# Altium footprint library TV1.PcbLib: 26 footprints (part 2 of 2)
Each footprint in its own frame and in the unit in brackets; x right, y up, seen from the top. Pads: shape width x height; smd on the part's side, far side on the other; paste and mask are expansions set on the pad; w line width, h text height; cw(c..) or ccw(c..) is an arc to the next point about the centre after c.
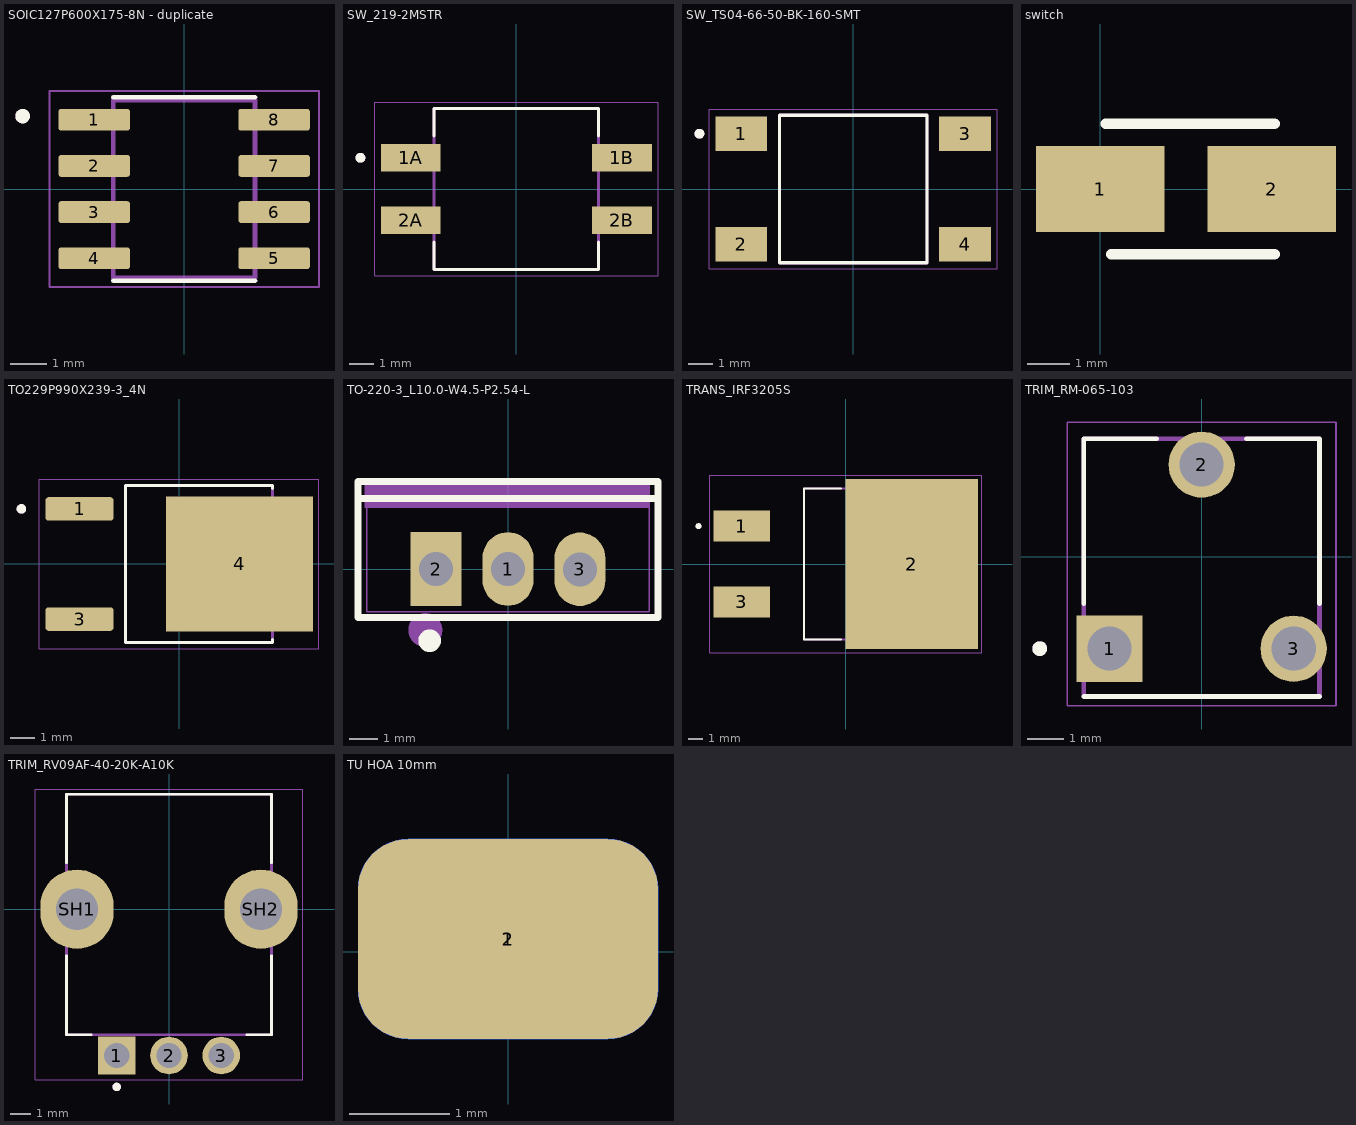
[diagram p1: the footprints below, top view; thin cyan lines are the x and y axes]

## SOIC127P600X175-8N - duplicate [mm]
height 1.75
pads (8):
  rrect25% 1.97x0.6 smd: 1(-2.475,1.905) 2(-2.475,0.635) 3(-2.475,-0.635) 4(-2.475,-1.905) 5(2.475,-1.905) 6(2.475,-0.635) 7(2.475,0.635) 8(2.475,1.905)
Top Overlay:
  circle w0.2: c-4.445,2.005 r0.1
  lines w0.127: -1.95,-2.525 1.95,-2.525 ; -1.95,2.525 1.95,2.525
Mechanical 13:
  circle w0.2: c-4.445,2.005 r0.1
  lines w0.127: -1.95,-2.45 -1.95,2.45 1.95,2.45 1.95,-2.45 -1.95,-2.45
Mechanical 15:
  lines w0.05: -3.71,-2.7 -3.71,2.7 3.71,2.7 3.71,-2.7 -3.71,-2.7
3D body "step_temp.STEP": height 1.75, standoff 0, extent -3,-2.5 3,2.5

## SW_219-2MSTR [mm]
height 3.85
pads (4):
  rect 2.44x1.13 smd: 1A(-4.3,1.27) 1B(4.3,1.27) 2A(-4.3,-1.27) 2B(4.3,-1.27)
Top Overlay:
  circle w0.2: c-6.35,1.27 r0.1
  lines w0.127: -3.35,-2.155 -3.35,-3.275 3.35,-3.275 3.35,-2.155 ; -3.35,2.155 -3.35,3.275 3.35,3.275 3.35,2.155
Mechanical 13:
  circle w0.2: c-6.35,1.27 r0.1
  lines w0.127: -3.35,-3.275 3.35,-3.275 3.35,3.275 -3.35,3.275 -3.35,-3.275
Mechanical 15:
  lines w0.05: -5.77,-3.525 -5.77,3.525 5.77,3.525 5.77,-3.525 -5.77,-3.525
3D body "step_temp.STEP": height 4.58, standoff 0, extent -4.955,-3.275 4.955,3.275

## SW_TS04-66-50-BK-160-SMT [mm]
pads (4):
  rect 2.1x1.4 smd: 1(-4.55,2.25) 2(-4.55,-2.25) 3(4.55,2.25) 4(4.55,-2.25)
Top Overlay:
  circle w0.2: c-6.25,2.25 r0.1
  lines w0.127: -3,-3 3,-3 3,3 -3,3 -3,-3
Mechanical 13:
  circle w0.2: c-6.25,2.25 r0.1
  lines w0.127: -3,-3 3,-3 3,3 -3,3 -3,-3
Mechanical 15:
  lines w0.05: -5.85,-3.25 5.85,-3.25 5.85,3.25 -5.85,3.25 -5.85,-3.25
3D body "step_temp.STEP": height 5, standoff -0.1, extent -5,-3 5,3

## switch [mm]
pads (2):
  rect 3x2 smd: 1(0,0) 2(4,0)
Top Overlay:
  lines w0.25: 0.127,1.524 4.064,1.524 ; 0.254,-1.524 4.064,-1.524
3D body "switch2pin3x4x2.5.step": height 2.5, standoff 0, extent 0.159,-1.5 4.159,1.5

## TO229P990X239-3_4N [mm]
height 2.39
pads (3):
  rrect25% 2.83x0.97 smd: 1(-4.14,2.29) 3(-4.14,-2.29)
  rect 6.1x5.63 smd paste-4: 4(2.51,0)
Top Overlay:
  circle w0.2: c-6.555,2.29 r0.1
  lines w0.127: 3.872,-3.135 3.872,-3.27 -2.222,-3.27 -2.222,3.27 3.872,3.27 3.872,3.135
Top Paste:
  region: 1.13,0.54 -0.19,0.54 -0.19,2.28 1.13,2.28
  region: 3.17,0.54 1.85,0.54 1.85,2.28 3.17,2.28
  region: 5.21,0.54 3.89,0.54 3.89,2.28 5.21,2.28
  region: 1.13,-2.28 -0.19,-2.28 -0.19,-0.54 1.13,-0.54
  region: 3.17,-2.28 1.85,-2.28 1.85,-0.54 3.17,-0.54
  region: 5.21,-2.28 3.89,-2.28 3.89,-0.54 5.21,-0.54
Mechanical 13:
  circle w0.2: c-6.555,2.29 r0.1
  lines w0.127: -2.222,-3.27 -2.222,3.27 3.872,3.27 3.872,-3.27 -2.222,-3.27
Mechanical 15:
  lines w0.05: -5.805,-3.52 -5.805,3.52 5.81,3.52 5.81,-3.52 -5.805,-3.52
3D body "step_temp.STEP": height 2.39, standoff -0.13, extent -4.952,-3.27 4.952,3.27

## TO-220-3_L10.0-W4.5-P2.54-L [mm]
pads (3):
  oval 1.8x2.6 hole 1.2: 1(0,0.005)
  rect 1.8x2.6 hole 1.2: 2(-2.54,0.005)
  oval 1.8x2.6 hole 1.2 copper offset 0,0: 3(2.54,-0.005)
Top Overlay:
  lines w0.254: -5.3,2.495 5.3,2.495 ; -5.301,-1.704 5.301,-1.704 5.301,3.094 -5.301,3.094 -5.301,3.089 -5.301,-1.704
  lines w0.4: -2.77,-2.33 ccw(c-2.769,-2.53) -2.769,-2.73 ccw(c-2.769,-2.53) -2.768,-2.33
Mechanical 6:
  circle w0.6: c-2.921,-2.154 r0.3
  region: -5.06,3.01 -5.06,2.17 4.99,2.17 4.99,3.01
Mechanical 15:
  region: -4.94,3 -4.94,2.975 -4.975,2.94 -5.025,2.94 -5.06,2.975 -5.06,3 -5.06,3.025 -5.025,3.06 -4.975,3.06 -4.94,3.025
  region: -2.89,-0.32 -2.89,0.33 -2.19,0.33 -2.19,-0.32
  region: -0.35,-0.32 -0.35,0.33 0.35,0.33 0.35,-0.32
  region: 2.19,-0.33 2.19,0.32 2.89,0.32 2.89,-0.33
  lines w0.051: -5,-1.5 -5,3 5,3 5,-1.5 -5,-1.5
3D body "IRFB3207PBF.STEP": height 19.3, standoff -10.03, extent -5.08,-1.651 5.334,2.794

## TRANS_IRF3205S [mm]
height 4.83
pads (3):
  rect 3.81x2.08 smd: 1(-6.985,2.54) 3(-6.985,-2.54)
  rect 8.89x11.43 smd paste-7: 2(4.445,0)
Top Overlay:
  circle w0.2: c-9.89,2.54 r0.1
  lines w0.127: -0.32,-5.08 -2.795,-5.08 -2.795,5.08 -0.32,5.08
Top Paste:
  region: 3.985,-1.605 2.675,-1.605 2.675,-0.305 3.985,-0.305
  region: 1.755,-1.605 0.445,-1.605 0.445,-0.305 1.755,-0.305
  region: 6.215,-1.605 4.905,-1.605 4.905,-0.305 6.215,-0.305
  region: 8.445,-1.605 7.135,-1.605 7.135,-0.305 8.445,-0.305
  region: 3.985,0.305 2.675,0.305 2.675,1.605 3.985,1.605
  region: 1.755,0.305 0.445,0.305 0.445,1.605 1.755,1.605
  region: 6.215,0.305 4.905,0.305 4.905,1.605 6.215,1.605
  region: 8.445,0.305 7.135,0.305 7.135,1.605 8.445,1.605
  region: 3.985,2.215 2.675,2.215 2.675,3.515 3.985,3.515
  region: 1.755,2.215 0.445,2.215 0.445,3.515 1.755,3.515
  region: 6.215,2.215 4.905,2.215 4.905,3.515 6.215,3.515
  region: 8.445,2.215 7.135,2.215 7.135,3.515 8.445,3.515
  region: 3.985,-3.515 2.675,-3.515 2.675,-2.215 3.985,-2.215
  region: 1.755,-3.515 0.445,-3.515 0.445,-2.215 1.755,-2.215
  region: 6.215,-3.515 4.905,-3.515 4.905,-2.215 6.215,-2.215
  region: 8.445,-3.515 7.135,-3.515 7.135,-2.215 8.445,-2.215
  region: 3.985,4.125 2.675,4.125 2.675,5.425 3.985,5.425
  region: 1.755,4.125 0.445,4.125 0.445,5.425 1.755,5.425
  region: 6.215,4.125 4.905,4.125 4.905,5.425 6.215,5.425
  region: 8.445,4.125 7.135,4.125 7.135,5.425 8.445,5.425
  region: 3.985,-5.425 2.675,-5.425 2.675,-4.125 3.985,-4.125
  region: 1.755,-5.425 0.445,-5.425 0.445,-4.125 1.755,-4.125
  region: 6.215,-5.425 4.905,-5.425 4.905,-4.125 6.215,-4.125
  region: 8.445,-5.425 7.135,-5.425 7.135,-4.125 8.445,-4.125
Mechanical 13:
  circle w0.2: c-9.89,2.54 r0.1
  lines w0.127: -2.795,-5.08 6.285,-5.08 6.285,5.08 -2.795,5.08 -2.795,-5.08
Mechanical 15:
  lines w0.05: -9.14,-5.965 -9.14,5.965 9.14,5.965 9.14,-5.965 -9.14,-5.965
3D body "step_temp.STEP": height 4.83, standoff -0.13, extent -7.62,-5.08 7.62,5.08

## TRIM_RM-065-103 [mm]
height 7.5
pads (3):
  rect 1.8x1.8 / inner round 1.8 / far side rect 1.8x1.8 hole 1.2: 1(-2.5,-2.5)
  round 1.8 hole 1.2: 2(0,2.5) 3(2.5,-2.5)
Top Overlay:
  circle w0.2: c-4.4,-2.5 r0.1
  lines w0.127: -3.2,-3.8 3.2,-3.8 ; -3.2,-1.28 -3.2,3.2 -1.22,3.2 ; 1.22,3.2 3.2,3.2 3.2,-1.28
Mechanical 13:
  circle w0.2: c-4.4,-2.5 r0.1
  lines w0.127: -3.2,-3.8 3.2,-3.8 3.2,3.2 -3.2,3.2 -3.2,-3.8
Mechanical 15:
  lines w0.05: -3.65,-4.05 -3.65,3.65 3.65,3.65 3.65,-4.05 -3.65,-4.05

## TRIM_RV09AF-40-20K-A10K [mm]
height 20.5
pads (5):
  rect 1.8x1.8 / inner round 1.8 / far side rect 1.8x1.8 hole 1.2: 1(-2.5,-7)
  round 1.8 hole 1.2: 2(0,-7) 3(2.5,-7)
  oval 3.5x3.8 hole 2 square: SH1(-4.4,0) SH2(4.4,0)
Top Overlay:
  circle w0.2: c-2.5,-8.5 r0.1
  lines w0.127: -4.9,-2.22 -4.9,-6 -3.72,-6 ; -4.9,2.22 -4.9,5.5 4.9,5.5 4.9,2.22 ; 3.72,-6 4.9,-6 4.9,-2.22
Mechanical 13:
  circle w0.2: c-2.5,-8.5 r0.1
  lines w0.127: -4.9,-6 -4.9,5.5 4.9,5.5 4.9,-6 -4.9,-6
Mechanical 15:
  lines w0.05: -6.4,-8.15 6.4,-8.15 6.4,5.75 -6.4,5.75 -6.4,-8.15
3D body "step_temp.STEP": height 20, standoff -3.8, extent -5.7,-7.2 5.7,5.5

## TU HOA 10mm [mm]
pads (2):
  rrect50% 3x2 smd: 1(0,0.127)
  rrect50% 3x2 smd far side: 2(0,0.127)
3D body "User Library-Capacitor Radial Electrolitic 500-1000x2000.step": height 5, standoff -5.01, extent -26.741,-5.254 -4.031,4.746